# EAGLE library part SN74LVC2GU04DBVR (library 2021-11-26_19-03-53_Library)
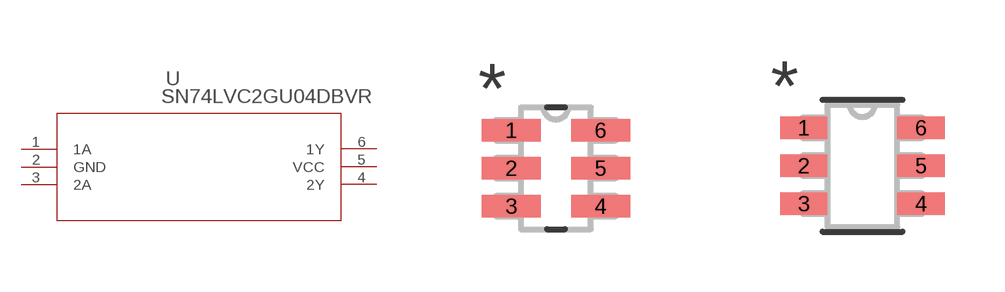
[diagram p0: symbol with the pads of DBV6; footprints DBV6, DBV6-M]

Designator prefix U

## SN74LVC2GU04DBVRDBV6 (Copyright: Copyright (C) 2021 Ultra Librarian. All rights reserved.; Manufacturer_Part_Number: SN74LVC2GU04DBVR; Mfr_Name: Texas Instruments)  [DBV6]
1  1A  in
2  GND  pwr
3  2A  in
4  2Y  out
5  VCC  pwr
6  1Y  out

## SN74LVC2GU04DBVRDBV6-M (Copyright: Copyright (C) 2021 Ultra Librarian. All rights reserved.; Manufacturer_Part_Number: SN74LVC2GU04DBVR; Mfr_Name: Texas Instruments)  [DBV6-M]
Pads as for DBV6

## SN74LVC2GU04DBVRDBV6-L (Copyright: Copyright (C) 2021 Ultra Librarian. All rights reserved.; Manufacturer_Part_Number: SN74LVC2GU04DBVR; Mfr_Name: Texas Instruments)  [DBV6-L]
Pads as for DBV6

## Footprint DBV6 (pad centres in mm)
smd 1.473 x 0.559: 1 -1.118,0.95; 2 -1.118,0; 3 -1.118,-0.95; 4 1.118,-0.95; 5 1.118,0; 6 1.118,0.95

## Footprint DBV6-M (pad centres in mm)
smd 1.181 x 0.559: 1 -1.467,0.95; 2 -1.467,0; 3 -1.467,-0.95; 4 1.467,-0.95; 5 1.467,0; 6 1.467,0.95

## Footprint DBV6-L (pad centres in mm)
smd 0.775 x 0.508: 1 -1.264,0.95; 2 -1.264,0; 3 -1.264,-0.95; 4 1.264,-0.95; 5 1.264,0; 6 1.264,0.95